# Altium footprint library Conn.Molex.PcbLib: 79 footprints (part 3 of 5)
Each footprint in its own frame and in the unit in brackets; x right, y up, seen from the top. Pads: shape width x height; smd on the part's side, far side on the other; paste and mask are expansions set on the pad; w line width, h text height; cw(c..) or ccw(c..) is an arc to the next point about the centre after c.
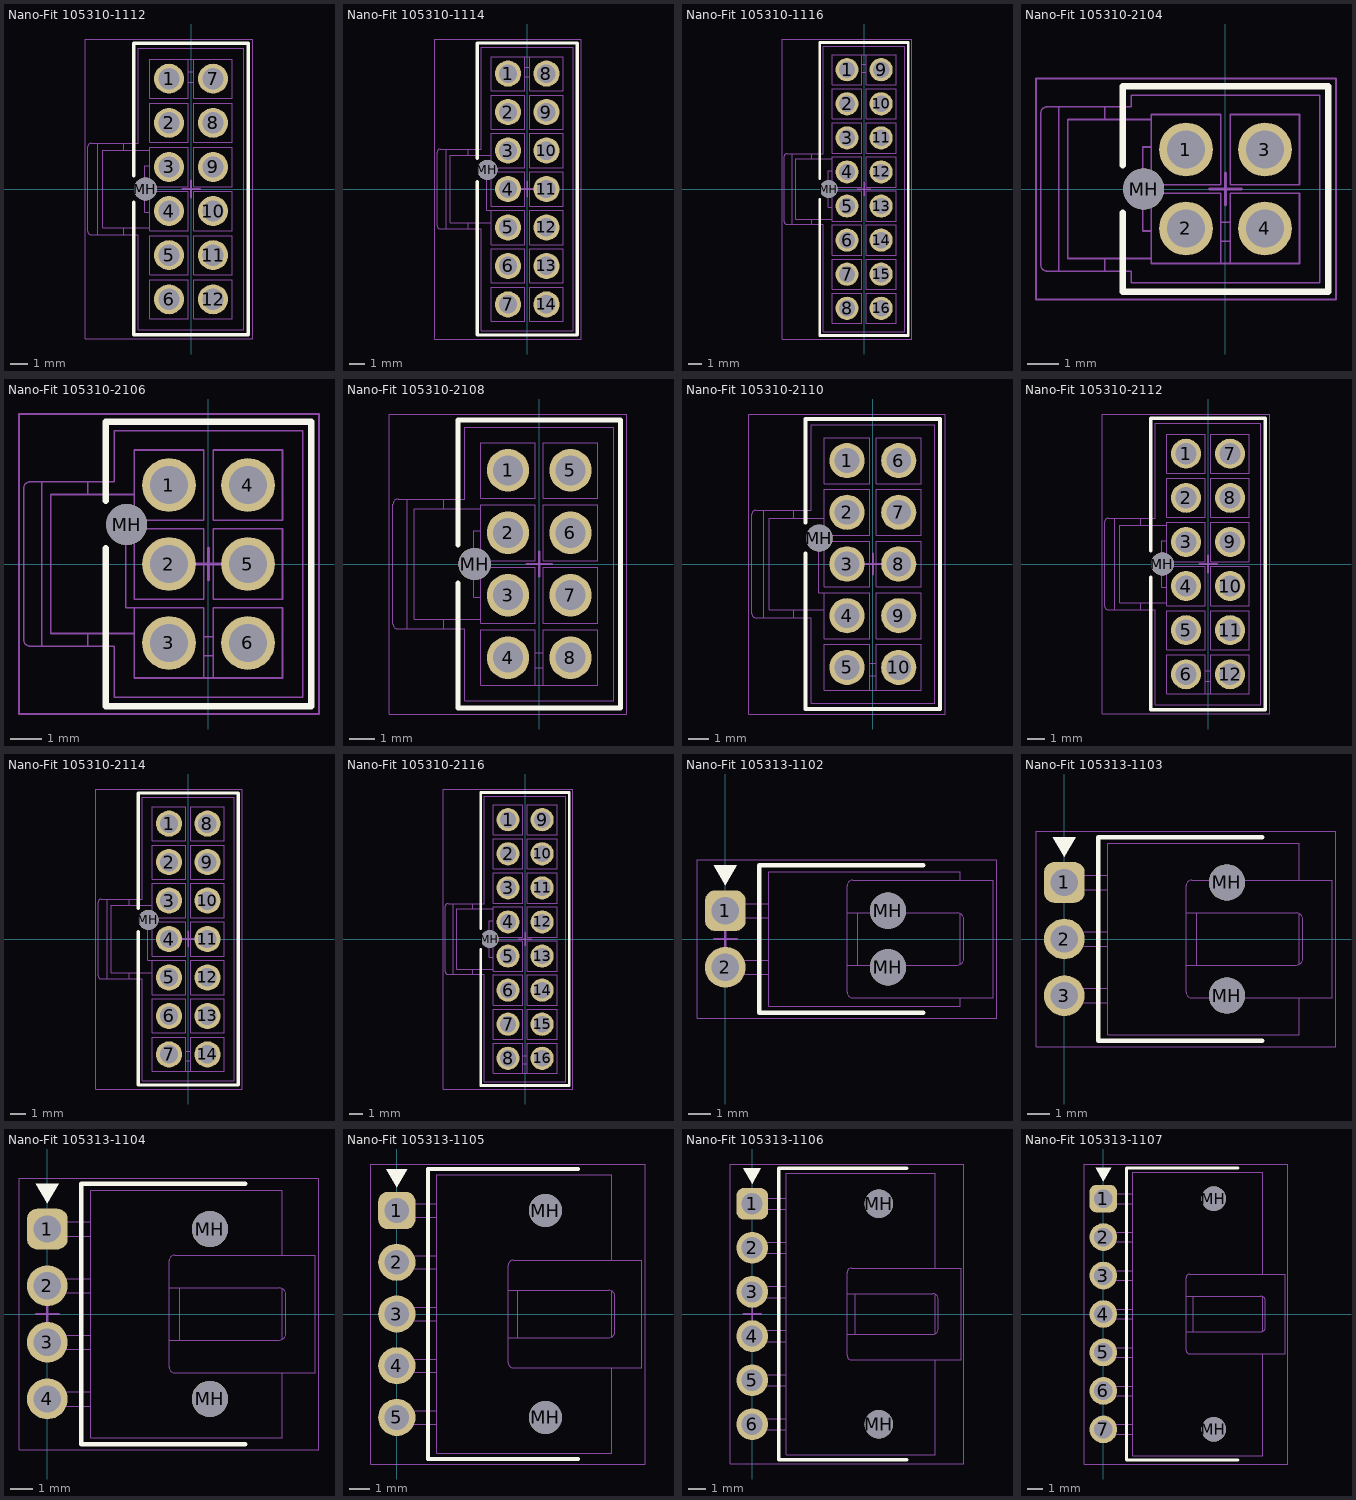
[diagram p2: the footprints below, top view; thin cyan lines are the x and y axes]

## Nano-Fit 105310-1112 [mm] "Molex Nano-Fit Header, 12-Pin, 2.5mm Pitch"
height 10.51
pads (13):
  round 1.7 hole 1.2: 1(-1.25,6.25) 2(-1.25,3.75) 3(-1.25,1.25) 4(-1.25,-1.25) 5(-1.25,-3.75) 6(-1.25,-6.25) 7(1.25,6.25) 8(1.25,3.75) 9(1.25,1.25) 10(1.25,-1.25) 11(1.25,-3.75) 12(1.25,-6.25)
  round 1.3 hole 1.3 unplated: MH(-2.59,0)
Top Overlay:
  lines w0.2: -3.25,-0.75 -3.25,-8.25 3.25,-8.25 3.25,8.25 -3.25,8.25 -3.25,0.75
Bottom Overlay:
  region: -1.25,7.384 -1.75,8.25 -0.75,8.25
Mechanical 1:
  drawing of 212 lines, arcs and shapes, not listed
Mechanical 15:
  lines w0.05: -6,-8.5 3.5,-8.5 3.5,8.5 -6,8.5 -6,-8.5
  lines w0.1: -0.5,0 0.5,0 ; 0,-0.5 0,0.5
3D body "Nano-Fit 105310-1112.stp": height 10.51, standoff -3.2, extent -5.85,-7.97 2.99,7.97

## Nano-Fit 105310-1114 [mm] "Molex Nano-Fit Header, 14-Pin, 2.5mm Pitch"
height 10.51
pads (15):
  round 1.7 hole 1.2: 1(-1.25,7.5) 2(-1.25,5) 3(-1.25,2.5) 4(-1.25,0) 5(-1.25,-2.5) 6(-1.25,-5) 7(-1.25,-7.5) 8(1.25,7.5) 9(1.25,5) 10(1.25,2.5) 11(1.25,0) 12(1.25,-2.5) 13(1.25,-5) 14(1.25,-7.5)
  round 1.3 hole 1.3 unplated: MH(-2.59,1.25)
Top Overlay:
  lines w0.2: -3.25,0.5 -3.25,-9.5 3.25,-9.5 3.25,9.5 -3.25,9.5 -3.25,2
Bottom Overlay:
  region: -1.25,8.634 -1.75,9.5 -0.75,9.5
Mechanical 1:
  drawing of 242 lines, arcs and shapes, not listed
Mechanical 15:
  lines w0.05: -6,-9.75 3.5,-9.75 3.5,9.75 -6,9.75 -6,-9.75
  lines w0.1: -0.5,0 0.5,0 ; 0,-0.5 0,0.5
3D body "Nano-Fit 105310-1114.stp": height 10.51, standoff -3.2, extent -5.85,-9.22 2.99,9.22

## Nano-Fit 105310-1116 [mm] "Molex Nano-Fit Header, 16-Pin, 2.5mm Pitch"
height 10.51
pads (17):
  round 1.7 hole 1.2: 1(-1.25,8.75) 2(-1.25,6.25) 3(-1.25,3.75) 4(-1.25,1.25) 5(-1.25,-1.25) 6(-1.25,-3.75) 7(-1.25,-6.25) 8(-1.25,-8.75) 9(1.25,8.75) 10(1.25,6.25) 11(1.25,3.75) 12(1.25,1.25) 13(1.25,-1.25) 14(1.25,-3.75) 15(1.25,-6.25) 16(1.25,-8.75)
  round 1.3 hole 1.3 unplated: MH(-2.59,0)
Top Overlay:
  lines w0.2: -3.25,-0.75 -3.25,-10.75 3.25,-10.75 3.25,10.75 -3.25,10.75 -3.25,0.75
Bottom Overlay:
  region: -1.25,9.884 -1.75,10.75 -0.75,10.75
Mechanical 1:
  drawing of 276 lines, arcs and shapes, not listed
Mechanical 15:
  lines w0.05: -6,-11 3.5,-11 3.5,11 -6,11 -6,-11
  lines w0.1: -0.5,0 0.5,0 ; 0,-0.5 0,0.5
3D body "Nano-Fit 105310-1116.stp": height 10.51, standoff -3.2, extent -5.85,-10.47 2.99,10.47

## Nano-Fit 105310-2104 [mm] "Molex Nano-Fit Header, 4-Pin, 2.5mm Pitch"
height 10.51
pads (5):
  round 1.7 hole 1.2: 1(-1.25,1.25) 2(-1.25,-1.25) 3(1.25,1.25) 4(1.25,-1.25)
  round 1.3 hole 1.3 unplated: MH(-2.59,0)
Top Overlay:
  lines w0.2: -3.25,-0.75 -3.25,-3.25 3.25,-3.25 3.25,3.25 -3.25,3.25 -3.25,0.75
Bottom Overlay:
  region: -1.25,2.384 -1.75,3.25 -0.75,3.25
Mechanical 1:
  lines w0.05: -5.28,-2.6 -5.28,2.6 ; -3.82,-2.6 -3.82,-2.2 ; -3.82,2.2 -3.82,2.6 ; -2.345,-2.2 -5,-2.2 -5,2.2 -2.345,2.2 ; -2.345,-1.33 -2.62,-1.33 -2.62,1.33 -2.345,1.33 ; -0.155,-2.36 -0.155,-0.14 -2.345,-0.14 -2.345,-2.36 2.345,-2.36 2.345,-0.14 0.155,-0.14 0.155,-2.36 ; -0.155,-1.65 0.155,-1.65 ; -0.155,-1.05 0.155,-1.05 ; -1.568,-1.568 -1.418,-1.418 ; -1.568,-1.568 -0.933,-1.568 ; -1.568,-1.568 -1.568,-0.933 ; -1.568,-0.933 -0.933,-0.933 ; -1.568,-0.933 -1.418,-1.082 ; -1.568,0.933 -1.418,1.082 ; -1.568,0.933 -0.933,0.933 ; -1.568,0.933 -1.568,1.568 ; -1.568,1.568 -0.933,1.568 ; -1.568,1.568 -1.418,1.418 ; -1.418,-1.418 -1.082,-1.418 ; -1.418,-1.418 -1.418,-1.082 ; -1.418,-1.082 -1.082,-1.082 ; -1.418,1.082 -1.082,1.082 ; -1.418,1.082 -1.418,1.418 ; -1.418,1.418 -1.082,1.418 ; -1.082,-1.418 -1.082,-1.082 ; -1.082,-1.418 -0.933,-1.568 ; -1.082,-1.082 -0.933,-0.933 ; -1.082,1.082 -0.933,0.933 ; -1.082,1.082 -1.082,1.418 ; -1.082,1.418 -0.933,1.568 ; -0.933,-1.568 -0.933,-0.933 ; -0.933,0.933 -0.933,1.568 ; 0.933,-1.568 0.933,-0.933 ; 0.933,-1.568 1.082,-1.418 ; 0.933,-1.568 1.568,-1.568 ; 0.933,-0.933 1.082,-1.082 ; 0.933,-0.933 1.568,-0.933 ; 0.933,0.933 1.082,1.082 ; 0.933,0.933 1.568,0.933 ; 0.933,0.933 0.933,1.568 ; 0.933,1.568 1.568,1.568 ; 0.933,1.568 1.082,1.418 ; 1.082,-1.418 1.082,-1.082 ; 1.082,-1.418 1.418,-1.418 ; 1.082,-1.082 1.418,-1.082 ; 1.082,1.082 1.082,1.418 ; 1.082,1.082 1.418,1.082 ; 1.082,1.418 1.418,1.418 ; 1.418,-1.418 1.418,-1.082 ; 1.418,-1.418 1.568,-1.568 ; 1.418,-1.082 1.568,-0.933 ; 1.418,1.082 1.418,1.418 ; 1.418,1.082 1.568,0.933 ; 1.418,1.418 1.568,1.568 ; 1.568,-1.568 1.568,-0.933 ; 1.568,0.933 1.568,1.568 ; -5.85,-2.4 ccw(c-5.65,-2.4) -5.65,-2.6 -2.99,-2.6 -2.99,-2.97 2.99,-2.97 2.99,2.97 -2.99,2.97 -2.99,2.6 -5.65,2.6 ccw(c-5.65,2.4) -5.85,2.4 -5.85,-2.4 ; -2.345,0.14 -2.345,2.36 -0.155,2.36 -0.155,0.14 -2.345,0.14 ; 0.155,0.14 0.155,2.36 2.345,2.36 2.345,0.14 0.155,0.14
Mechanical 15:
  lines w0.05: -6,-3.5 -6,3.5 3.5,3.5 3.5,-3.5 -6,-3.5
  lines w0.1: -0.5,0 0.5,0 ; 0,-0.5 0,0.5
3D body "Nano-Fit 105310-2104.stp": height 10.51, standoff -3.2, extent -5.85,-2.97 2.99,2.97

## Nano-Fit 105310-2106 [mm] "Molex Nano-Fit Header, 6-Pin, 2.5mm Pitch"
height 10.51
pads (7):
  round 1.7 hole 1.2: 1(-1.25,2.5) 2(-1.25,0) 3(-1.25,-2.5) 4(1.25,2.5) 5(1.25,0) 6(1.25,-2.5)
  round 1.3 hole 1.3 unplated: MH(-2.59,1.25)
Top Overlay:
  lines w0.2: -3.25,0.5 -3.25,-4.5 3.25,-4.5 3.25,4.5 -3.25,4.5 -3.25,2
Bottom Overlay:
  region: -1.25,3.634 -1.75,4.5 -0.75,4.5
Mechanical 1:
  lines w0.05: -5.28,-2.6 -5.28,2.6 ; -3.82,-2.6 -3.82,-2.2 ; -3.82,2.2 -3.82,2.6 ; -2.345,-2.2 -5,-2.2 -5,2.2 -2.345,2.2 ; -2.345,-1.39 -2.345,-3.61 2.345,-3.61 2.345,-1.39 0.155,-1.39 0.155,-3.61 ; -2.345,1.39 -2.345,3.61 -0.155,3.61 -0.155,1.39 -2.62,1.39 -2.62,-1.39 -0.155,-1.39 -0.155,-3.61 ; -0.155,-2.9 0.155,-2.9 ; -0.155,-2.3 0.155,-2.3 ; -1.568,-2.818 -1.568,-2.183 ; -1.568,-2.818 -1.418,-2.668 ; -1.568,-2.818 -0.933,-2.818 ; -1.568,-2.183 -1.418,-2.332 ; -1.568,-2.183 -0.933,-2.183 ; -1.568,-0.318 -1.418,-0.168 ; -1.568,-0.318 -0.933,-0.318 ; -1.568,-0.318 -1.568,0.318 ; -1.568,0.318 -0.933,0.318 ; -1.568,0.318 -1.418,0.168 ; -1.568,2.183 -1.568,2.818 ; -1.568,2.183 -1.418,2.332 ; -1.568,2.183 -0.933,2.183 ; -1.568,2.818 -1.418,2.668 ; -1.568,2.818 -0.933,2.818 ; -1.418,-2.668 -1.418,-2.332 ; -1.418,-2.668 -1.082,-2.668 ; -1.418,-2.332 -1.082,-2.332 ; -1.418,-0.168 -1.418,0.168 ; -1.418,-0.168 -1.082,-0.168 ; -1.418,0.168 -1.082,0.168 ; -1.418,2.332 -1.418,2.668 ; -1.418,2.332 -1.082,2.332 ; -1.418,2.668 -1.082,2.668 ; -1.082,-2.668 -1.082,-2.332 ; -1.082,-2.668 -0.933,-2.818 ; -1.082,-2.332 -0.933,-2.183 ; -1.082,-0.168 -1.082,0.168 ; -1.082,-0.168 -0.933,-0.318 ; -1.082,0.168 -0.933,0.318 ; -1.082,2.332 -1.082,2.668 ; -1.082,2.332 -0.933,2.183 ; -1.082,2.668 -0.933,2.818 ; -0.933,-2.818 -0.933,-2.183 ; -0.933,-0.318 -0.933,0.318 ; -0.933,2.183 -0.933,2.818 ; 0.933,-2.818 1.082,-2.668 ; 0.933,-2.818 1.568,-2.818 ; 0.933,-2.818 0.933,-2.183 ; 0.933,-2.183 1.568,-2.183 ; 0.933,-2.183 1.082,-2.332 ; 0.933,-0.318 1.082,-0.168 ; 0.933,-0.318 1.568,-0.318 ; 0.933,-0.318 0.933,0.318 ; 0.933,0.318 1.082,0.168 ; 0.933,0.318 1.568,0.318 ; 0.933,2.183 0.933,2.818 ; 0.933,2.183 1.082,2.332 ; 0.933,2.183 1.568,2.183 ; 0.933,2.818 1.568,2.818 ; 0.933,2.818 1.082,2.668 ; 1.082,-2.668 1.082,-2.332 ; 1.082,-2.668 1.418,-2.668 ; 1.082,-2.332 1.418,-2.332 ; 1.082,-0.168 1.418,-0.168 ; 1.082,-0.168 1.082,0.168 ; 1.082,0.168 1.418,0.168 ; 1.082,2.332 1.082,2.668 ; 1.082,2.332 1.418,2.332 ; 1.082,2.668 1.418,2.668 ; 1.418,-2.668 1.418,-2.332 ; 1.418,-2.668 1.568,-2.818 ; 1.418,-2.332 1.568,-2.183 ; 1.418,-0.168 1.418,0.168 ; 1.418,-0.168 1.568,-0.318 ; 1.418,0.168 1.568,0.318 ; 1.418,2.332 1.418,2.668 ; 1.418,2.332 1.568,2.183 ; 1.418,2.668 1.568,2.818 ; 1.568,-2.818 1.568,-2.183 ; 1.568,-0.318 1.568,0.318 ; 1.568,2.183 1.568,2.818 ; -5.85,-2.4 ccw(c-5.65,-2.4) -5.65,-2.6 -2.99,-2.6 -2.99,-4.22 2.99,-4.22 2.99,4.22 -2.99,4.22 -2.99,2.6 -5.65,2.6 ccw(c-5.65,2.4) -5.85,2.4 -5.85,-2.4 ; -2.345,-1.11 -2.345,1.11 -0.155,1.11 -0.155,-1.11 -2.345,-1.11 ; 0.155,-1.11 0.155,1.11 2.345,1.11 2.345,-1.11 0.155,-1.11 ; 0.155,1.39 0.155,3.61 2.345,3.61 2.345,1.39 0.155,1.39
Mechanical 15:
  lines w0.05: -6,-4.75 3.5,-4.75 3.5,4.75 -6,4.75 -6,-4.75
  lines w0.1: -0.5,0 0.5,0 ; 0,-0.5 0,0.5
3D body "Nano-Fit 105310-2106.stp": height 10.51, standoff -3.2, extent -5.85,-4.22 2.99,4.22

## Nano-Fit 105310-2108 [mm] "Molex Nano-Fit Header, 8-Pin, 2.5mm Pitch"
height 10.51
pads (9):
  round 1.7 hole 1.2: 1(-1.25,3.75) 2(-1.25,1.25) 3(-1.25,-1.25) 4(-1.25,-3.75) 5(1.25,3.75) 6(1.25,1.25) 7(1.25,-1.25) 8(1.25,-3.75)
  round 1.3 hole 1.3 unplated: MH(-2.59,0)
Top Overlay:
  lines w0.2: -3.25,-0.75 -3.25,-5.75 3.25,-5.75 3.25,5.75 -3.25,5.75 -3.25,0.75
Bottom Overlay:
  region: -1.25,4.884 -1.75,5.75 -0.75,5.75
Mechanical 1:
  lines w0.05: -5.28,-2.6 -5.28,2.6 ; -3.82,-2.6 -3.82,-2.2 ; -3.82,2.2 -3.82,2.6 ; -2.345,-2.2 -5,-2.2 -5,2.2 -2.345,2.2 ; -2.345,-1.33 -2.62,-1.33 -2.62,1.33 -2.345,1.33 ; -0.155,-4.86 -0.155,-2.64 -2.345,-2.64 -2.345,-4.86 2.345,-4.86 2.345,-2.64 0.155,-2.64 0.155,-4.86 ; -0.155,-4.15 0.155,-4.15 ; -0.155,-3.55 0.155,-3.55 ; -1.568,-4.068 -1.418,-3.918 ; -1.568,-4.068 -0.933,-4.068 ; -1.568,-4.068 -1.568,-3.433 ; -1.568,-3.433 -0.933,-3.433 ; -1.568,-3.433 -1.418,-3.582 ; -1.568,-1.568 -1.568,-0.933 ; -1.568,-1.568 -1.418,-1.418 ; -1.568,-1.568 -0.933,-1.568 ; -1.568,-0.933 -1.418,-1.082 ; -1.568,-0.933 -0.933,-0.933 ; -1.568,0.933 -1.418,1.082 ; -1.568,0.933 -0.933,0.933 ; -1.568,0.933 -1.568,1.568 ; -1.568,1.568 -1.418,1.418 ; -1.568,1.568 -0.933,1.568 ; -1.568,3.433 -1.418,3.582 ; -1.568,3.433 -0.933,3.433 ; -1.568,3.433 -1.568,4.068 ; -1.568,4.068 -0.933,4.068 ; -1.568,4.068 -1.418,3.918 ; -1.418,-3.918 -1.082,-3.918 ; -1.418,-3.918 -1.418,-3.582 ; -1.418,-3.582 -1.082,-3.582 ; -1.418,-1.418 -1.418,-1.082 ; -1.418,-1.418 -1.082,-1.418 ; -1.418,-1.082 -1.082,-1.082 ; -1.418,1.082 -1.082,1.082 ; -1.418,1.082 -1.418,1.418 ; -1.418,1.418 -1.082,1.418 ; -1.418,3.582 -1.082,3.582 ; -1.418,3.582 -1.418,3.918 ; -1.418,3.918 -1.082,3.918 ; -1.082,-3.918 -1.082,-3.582 ; -1.082,-3.918 -0.933,-4.068 ; -1.082,-3.582 -0.933,-3.433 ; -1.082,-1.418 -1.082,-1.082 ; -1.082,-1.418 -0.933,-1.568 ; -1.082,-1.082 -0.933,-0.933 ; -1.082,1.082 -0.933,0.933 ; -1.082,1.082 -1.082,1.418 ; -1.082,1.418 -0.933,1.568 ; -1.082,3.582 -0.933,3.433 ; -1.082,3.582 -1.082,3.918 ; -1.082,3.918 -0.933,4.068 ; -0.933,-4.068 -0.933,-3.433 ; -0.933,-1.568 -0.933,-0.933 ; -0.933,0.933 -0.933,1.568 ; -0.933,3.433 -0.933,4.068 ; 0.933,-4.068 0.933,-3.433 ; 0.933,-4.068 1.082,-3.918 ; 0.933,-4.068 1.568,-4.068 ; 0.933,-3.433 1.082,-3.582 ; 0.933,-3.433 1.568,-3.433 ; 0.933,-1.568 0.933,-0.933 ; 0.933,-1.568 1.082,-1.418 ; 0.933,-1.568 1.568,-1.568 ; 0.933,-0.933 1.568,-0.933 ; 0.933,-0.933 1.082,-1.082 ; 0.933,0.933 0.933,1.568 ; 0.933,0.933 1.082,1.082 ; 0.933,0.933 1.568,0.933 ; 0.933,1.568 1.082,1.418 ; 0.933,1.568 1.568,1.568 ; 0.933,3.433 1.082,3.582 ; 0.933,3.433 1.568,3.433 ; 0.933,3.433 0.933,4.068 ; 0.933,4.068 1.568,4.068 ; 0.933,4.068 1.082,3.918 ; 1.082,-3.918 1.082,-3.582 ; 1.082,-3.918 1.418,-3.918 ; 1.082,-3.582 1.418,-3.582 ; 1.082,-1.418 1.082,-1.082 ; 1.082,-1.418 1.418,-1.418 ; 1.082,-1.082 1.418,-1.082 ; 1.082,1.082 1.082,1.418 ; 1.082,1.082 1.418,1.082 ; 1.082,1.418 1.418,1.418 ; 1.082,3.582 1.082,3.918 ; 1.082,3.582 1.418,3.582 ; 1.082,3.918 1.418,3.918 ; 1.418,-3.918 1.418,-3.582 ; 1.418,-3.918 1.568,-4.068 ; 1.418,-3.582 1.568,-3.433 ; 1.418,-1.418 1.418,-1.082 ; 1.418,-1.418 1.568,-1.568 ; 1.418,-1.082 1.568,-0.933 ; 1.418,1.082 1.418,1.418 ; 1.418,1.082 1.568,0.933 ; 1.418,1.418 1.568,1.568 ; 1.418,3.582 1.418,3.918 ; 1.418,3.582 1.568,3.433 ; 1.418,3.918 1.568,4.068 ; 1.568,-4.068 1.568,-3.433 ; 1.568,-1.568 1.568,-0.933 ; 1.568,0.933 1.568,1.568 ; 1.568,3.433 1.568,4.068 ; -5.85,-2.4 ccw(c-5.65,-2.4) -5.65,-2.6 -2.99,-2.6 -2.99,-5.47 2.99,-5.47 2.99,5.47 -2.99,5.47 -2.99,2.6 -5.65,2.6 ccw(c-5.65,2.4) -5.85,2.4 -5.85,-2.4 ; -2.345,-2.36 -2.345,-0.14 -0.155,-0.14 -0.155,-2.36 -2.345,-2.36 ; -2.345,0.14 -0.155,0.14 -0.155,2.36 -2.345,2.36 -2.345,0.14 ; -2.345,2.64 -2.345,4.86 -0.155,4.86 -0.155,2.64 -2.345,2.64 ; 0.155,-2.36 0.155,-0.14 2.345,-0.14 2.345,-2.36 0.155,-2.36 ; 0.155,0.14 0.155,2.36 2.345,2.36 2.345,0.14 0.155,0.14 ; 0.155,2.64 0.155,4.86 2.345,4.86 2.345,2.64 0.155,2.64
Mechanical 15:
  lines w0.05: -6,-6 3.5,-6 3.5,6 -6,6 -6,-6
  lines w0.1: -0.5,0 0.5,0 ; 0,-0.5 0,0.5
3D body "Nano-Fit 105310-2108.stp": height 10.51, standoff -3.2, extent -5.85,-5.47 2.99,5.47

## Nano-Fit 105310-2110 [mm] "Molex Nano-Fit Header, 10-Pin, 2.5mm Pitch"
height 10.51
pads (11):
  round 1.7 hole 1.2: 1(-1.25,5) 2(-1.25,2.5) 3(-1.25,0) 4(-1.25,-2.5) 5(-1.25,-5) 6(1.25,5) 7(1.25,2.5) 8(1.25,0) 9(1.25,-2.5) 10(1.25,-5)
  round 1.3 hole 1.3 unplated: MH(-2.59,1.25)
Top Overlay:
  lines w0.2: -3.25,0.5 -3.25,-7 3.25,-7 3.25,7 -3.25,7 -3.25,2
Bottom Overlay:
  region: -1.25,6.134 -1.75,7 -0.75,7
Mechanical 1:
  drawing of 178 lines, arcs and shapes, not listed
Mechanical 15:
  lines w0.05: -6,-7.25 -6,7.25 3.5,7.25 3.5,-7.25 -6,-7.25
  lines w0.1: -0.5,0 0.5,0 ; 0,-0.5 0,0.5
3D body "Nano-Fit 105310-2110.stp": height 10.51, standoff -3.2, extent -5.85,-6.72 2.99,6.72

## Nano-Fit 105310-2112 [mm] "Molex Nano-Fit Header, 12-Pin, 2.5mm Pitch"
height 10.51
pads (13):
  round 1.7 hole 1.2: 1(-1.25,6.25) 2(-1.25,3.75) 3(-1.25,1.25) 4(-1.25,-1.25) 5(-1.25,-3.75) 6(-1.25,-6.25) 7(1.25,6.25) 8(1.25,3.75) 9(1.25,1.25) 10(1.25,-1.25) 11(1.25,-3.75) 12(1.25,-6.25)
  round 1.3 hole 1.3 unplated: MH(-2.59,0)
Top Overlay:
  lines w0.2: -3.25,-0.75 -3.25,-8.25 3.25,-8.25 3.25,8.25 -3.25,8.25 -3.25,0.75
Bottom Overlay:
  region: -1.25,7.384 -1.75,8.25 -0.75,8.25
Mechanical 1:
  drawing of 212 lines, arcs and shapes, not listed
Mechanical 15:
  lines w0.05: -6,-8.5 -6,8.5 3.5,8.5 3.5,-8.5 -6,-8.5
  lines w0.1: -0.5,0 0.5,0 ; 0,-0.5 0,0.5
3D body "Nano-Fit 105310-2112.stp": height 10.51, standoff -3.2, extent -5.85,-7.97 2.99,7.97

## Nano-Fit 105310-2114 [mm] "Molex Nano-Fit Header, 14-Pin, 2.5mm Pitch"
height 10.51
pads (15):
  round 1.7 hole 1.2: 1(-1.25,7.5) 2(-1.25,5) 3(-1.25,2.5) 4(-1.25,0) 5(-1.25,-2.5) 6(-1.25,-5) 7(-1.25,-7.5) 8(1.25,7.5) 9(1.25,5) 10(1.25,2.5) 11(1.25,0) 12(1.25,-2.5) 13(1.25,-5) 14(1.25,-7.5)
  round 1.3 hole 1.3 unplated: MH(-2.59,1.25)
Top Overlay:
  lines w0.2: -3.25,0.5 -3.25,-9.5 3.25,-9.5 3.25,9.5 -3.25,9.5 -3.25,2
Bottom Overlay:
  region: -1.25,8.634 -1.75,9.5 -0.75,9.5
Mechanical 1:
  drawing of 242 lines, arcs and shapes, not listed
Mechanical 15:
  lines w0.05: -6,-9.75 -6,9.75 3.5,9.75 3.5,-9.75 -6,-9.75
  lines w0.1: -0.5,0 0.5,0 ; 0,-0.5 0,0.5
3D body "Nano-Fit 105310-2114.stp": height 10.51, standoff -3.2, extent -5.85,-9.22 2.99,9.22

## Nano-Fit 105310-2116 [mm] "Molex Nano-Fit Header, 16-Pin, 2.5mm Pitch"
height 10.51
pads (17):
  round 1.7 hole 1.2: 1(-1.25,8.75) 2(-1.25,6.25) 3(-1.25,3.75) 4(-1.25,1.25) 5(-1.25,-1.25) 6(-1.25,-3.75) 7(-1.25,-6.25) 8(-1.25,-8.75) 9(1.25,8.75) 10(1.25,6.25) 11(1.25,3.75) 12(1.25,1.25) 13(1.25,-1.25) 14(1.25,-3.75) 15(1.25,-6.25) 16(1.25,-8.75)
  round 1.3 hole 1.3 unplated: MH(-2.59,0)
Top Overlay:
  lines w0.2: -3.25,-0.75 -3.25,-10.75 3.25,-10.75 3.25,10.75 -3.25,10.75 -3.25,0.75
Bottom Overlay:
  region: -1.25,9.884 -1.75,10.75 -0.75,10.75
Mechanical 1:
  drawing of 276 lines, arcs and shapes, not listed
Mechanical 15:
  lines w0.05: -6,-11 -6,11 3.5,11 3.5,-11 -6,-11
  lines w0.1: -0.5,0 0.5,0 ; 0,-0.5 0,0.5
3D body "Nano-Fit 105310-2116.stp": height 10.51, standoff -3.2, extent -5.85,-10.47 2.99,10.47

## Nano-Fit 105313-1102 [mm] "Molex Nano-Fit Header, 2-Pin, 2.5mm Pitch"
height 6.64
pads (4):
  rrect50% 1.8x1.8 hole 1.2: 1(0,1.25)
  round 1.8 hole 1.2: 2(0,-1.25)
  round 1.6 hole 1.6 unplated: MH(7.18,-1.25) MH(7.18,1.25)
Top Overlay:
  region: 0,2.384 0.5,3.25 -0.5,3.25
  lines w0.2: 8.75,-3.25 1.5,-3.25 1.5,3.25 8.75,3.25
Mechanical 1:
  lines w0.05: 0.617,-1.568 0.617,-0.933 ; 0.617,0.933 0.617,1.568 ; 1.92,-1.568 -0.318,-1.568 -0.318,-0.933 1.92,-0.933 ; 1.92,0.933 -0.318,0.933 -0.318,1.568 1.92,1.568 ; 5.38,-1.15 10.24,-1.15 ccw(c10.24,-0.85) 10.54,-0.85 10.54,0.85 ccw(c10.24,0.85) 10.24,1.15 5.38,1.15 ; 5.84,-1.15 5.84,1.15 ; 10.38,-2.6 10.38,-2.97 1.92,-2.97 1.92,2.97 10.38,2.97 10.38,2.6 ; 10.38,-1.115 10.38,1.115 ; 5.38,-2.35 ccw(c5.63,-2.35) 5.63,-2.6 11.84,-2.6 11.84,2.6 5.63,2.6 ccw(c5.63,2.35) 5.38,2.35 5.38,-2.35
Mechanical 15:
  lines w0.05: -1.25,-3.5 -1.25,3.5 12,3.5 12,-3.5 -1.25,-3.5
  lines w0.1: -0.5,0 0.5,0 ; 0,-0.5 0,0.5
3D body "Nano-Fit 105313-1102.stp": height 6.64, standoff -3.2, extent -0.318,-2.97 11.84,2.97

## Nano-Fit 105313-1103 [mm] "Molex Nano-Fit Header, 2-Pin, 2.5mm Pitch"
height 6.64
pads (5):
  rrect50% 1.8x1.8 hole 1.2: 1(0,2.5)
  round 1.8 hole 1.2: 2(0,0) 3(0,-2.5)
  round 1.6 hole 1.6 unplated: MH(7.18,-2.5) MH(7.18,2.5)
Top Overlay:
  region: 0,3.634 0.5,4.5 -0.5,4.5
  lines w0.2: 8.75,-4.5 1.5,-4.5 1.5,4.5 8.75,4.5
Mechanical 1:
  lines w0.05: 0.617,-2.818 0.617,-2.183 ; 0.617,-0.318 0.617,0.318 ; 0.617,2.183 0.617,2.818 ; 1.92,-2.818 -0.318,-2.818 -0.318,-2.183 1.92,-2.183 ; 1.92,-0.318 -0.318,-0.318 -0.318,0.318 1.92,0.318 ; 1.92,2.183 -0.318,2.183 -0.318,2.818 1.92,2.818 ; 5.38,-1.15 10.24,-1.15 ccw(c10.24,-0.85) 10.54,-0.85 10.54,0.85 ccw(c10.24,0.85) 10.24,1.15 5.38,1.15 ; 5.84,-1.15 5.84,1.15 ; 10.38,-2.6 10.38,-4.22 1.92,-4.22 1.92,4.22 10.38,4.22 10.38,2.6 ; 10.38,-1.115 10.38,1.115 ; 5.38,-2.35 ccw(c5.63,-2.35) 5.63,-2.6 11.84,-2.6 11.84,2.6 5.63,2.6 ccw(c5.63,2.35) 5.38,2.35 5.38,-2.35
Mechanical 15:
  lines w0.05: -1.25,-4.75 12,-4.75 12,4.75 -1.25,4.75 -1.25,-4.75
  lines w0.1: -0.5,0 0.5,0 ; 0,-0.5 0,0.5
3D body "Nano-Fit 105313-1103.STEP": height 6.64, standoff -3.2, extent -0.318,-4.22 11.84,4.22

## Nano-Fit 105313-1104 [mm] "Molex Nano-Fit Header, 4-Pin, 2.5mm Pitch"
height 6.64
pads (6):
  rrect50% 1.8x1.8 hole 1.2: 1(0,3.75)
  round 1.8 hole 1.2: 2(0,1.25) 3(0,-1.25) 4(0,-3.75)
  round 1.6 hole 1.6 unplated: MH(7.18,-3.75) MH(7.18,3.75)
Top Overlay:
  region: 0,4.884 0.5,5.75 -0.5,5.75
  lines w0.2: 8.75,-5.75 1.5,-5.75 1.5,5.75 8.75,5.75
Mechanical 1:
  lines w0.05: 0.617,-4.068 0.617,-3.433 ; 0.617,-1.568 0.617,-0.933 ; 0.617,0.933 0.617,1.568 ; 0.617,3.433 0.617,4.068 ; 1.92,-4.068 -0.318,-4.068 -0.318,-3.433 1.92,-3.433 ; 1.92,-1.568 -0.318,-1.568 -0.318,-0.933 1.92,-0.933 ; 1.92,0.933 -0.318,0.933 -0.318,1.568 1.92,1.568 ; 1.92,3.433 -0.318,3.433 -0.318,4.068 1.92,4.068 ; 5.38,-1.15 10.24,-1.15 ccw(c10.24,-0.85) 10.54,-0.85 10.54,0.85 ccw(c10.24,0.85) 10.24,1.15 5.38,1.15 ; 5.84,-1.15 5.84,1.15 ; 10.38,-2.6 10.38,-5.47 1.92,-5.47 1.92,5.47 10.38,5.47 10.38,2.6 ; 10.38,-1.115 10.38,1.115 ; 5.38,-2.35 ccw(c5.63,-2.35) 5.63,-2.6 11.84,-2.6 11.84,2.6 5.63,2.6 ccw(c5.63,2.35) 5.38,2.35 5.38,-2.35
Mechanical 15:
  lines w0.05: -1.25,-6 -1.25,6 12,6 12,-6 -1.25,-6
  lines w0.1: -0.5,0 0.5,0 ; 0,-0.5 0,0.5
3D body "Nano-Fit 105313-1104.STEP": height 6.64, standoff -3.2, extent -0.317,-5.47 11.84,5.47

## Nano-Fit 105313-1105 [mm] "Molex Nano-Fit Header, 5-Pin, 2.5mm Pitch"
height 6.64
pads (7):
  rrect50% 1.8x1.8 hole 1.2: 1(0,5)
  round 1.8 hole 1.2: 2(0,2.5) 3(0,0) 4(0,-2.5) 5(0,-5)
  round 1.6 hole 1.6 unplated: MH(7.18,-5) MH(7.18,5)
Top Overlay:
  region: 0,6.134 0.5,7 -0.5,7
  lines w0.2: 8.75,-7 1.5,-7 1.5,7 8.75,7
Mechanical 1:
  lines w0.05: 0.617,-5.318 0.617,-4.683 ; 0.617,-2.818 0.617,-2.183 ; 0.617,-0.318 0.617,0.318 ; 0.617,2.183 0.617,2.818 ; 0.617,4.683 0.617,5.318 ; 1.92,-5.318 -0.318,-5.318 -0.318,-4.683 1.92,-4.683 ; 1.92,-2.818 -0.318,-2.818 -0.318,-2.183 1.92,-2.183 ; 1.92,-0.318 -0.318,-0.318 -0.318,0.318 1.92,0.318 ; 1.92,2.183 -0.318,2.183 -0.318,2.818 1.92,2.818 ; 1.92,4.683 -0.318,4.683 -0.318,5.318 1.92,5.318 ; 5.38,-1.15 10.24,-1.15 ccw(c10.24,-0.85) 10.54,-0.85 10.54,0.85 ccw(c10.24,0.85) 10.24,1.15 5.38,1.15 ; 5.84,-1.15 5.84,1.15 ; 10.38,-2.6 10.38,-6.72 1.92,-6.72 1.92,6.72 10.38,6.72 10.38,2.6 ; 10.38,-1.115 10.38,1.115 ; 5.38,-2.35 ccw(c5.63,-2.35) 5.63,-2.6 11.84,-2.6 11.84,2.6 5.63,2.6 ccw(c5.63,2.35) 5.38,2.35 5.38,-2.35
Mechanical 15:
  lines w0.05: -1.25,-7.25 -1.25,7.25 12,7.25 12,-7.25 -1.25,-7.25
  lines w0.1: -0.5,0 0.5,0 ; 0,-0.5 0,0.5
3D body "Nano-Fit 105313-1105.stp": height 6.64, standoff -3.2, extent -0.317,-6.72 11.84,6.72

## Nano-Fit 105313-1106 [mm] "Molex Nano-Fit Header, 6-Pin, 2.5mm Pitch"
height 6.64
pads (8):
  rrect50% 1.8x1.8 hole 1.2: 1(0,6.25)
  round 1.8 hole 1.2: 2(0,3.75) 3(0,1.25) 4(0,-1.25) 5(0,-3.75) 6(0,-6.25)
  round 1.6 hole 1.6 unplated: MH(7.18,-6.25) MH(7.18,6.25)
Top Overlay:
  region: 0,7.384 0.5,8.25 -0.5,8.25
  lines w0.2: 8.75,-8.25 1.5,-8.25 1.5,8.25 8.75,8.25
Mechanical 1:
  lines w0.05: 0.617,-6.568 0.617,-5.933 ; 0.617,-4.068 0.617,-3.433 ; 0.617,-1.568 0.617,-0.933 ; 0.617,0.933 0.617,1.568 ; 0.617,3.433 0.617,4.068 ; 0.617,5.933 0.617,6.568 ; 1.92,-6.568 -0.318,-6.568 -0.318,-5.933 1.92,-5.933 ; 1.92,-4.068 -0.318,-4.068 -0.318,-3.433 1.92,-3.433 ; 1.92,-1.568 -0.318,-1.568 -0.318,-0.933 1.92,-0.933 ; 1.92,0.933 -0.318,0.933 -0.318,1.568 1.92,1.568 ; 1.92,3.433 -0.318,3.433 -0.318,4.068 1.92,4.068 ; 1.92,5.933 -0.318,5.933 -0.318,6.568 1.92,6.568 ; 5.38,-1.15 10.24,-1.15 ccw(c10.24,-0.85) 10.54,-0.85 10.54,0.85 ccw(c10.24,0.85) 10.24,1.15 5.38,1.15 ; 5.84,-1.15 5.84,1.15 ; 10.38,-2.6 10.38,-7.97 1.92,-7.97 1.92,7.97 10.38,7.97 10.38,2.6 ; 10.38,-1.115 10.38,1.115 ; 5.38,-2.35 ccw(c5.63,-2.35) 5.63,-2.6 11.84,-2.6 11.84,2.6 5.63,2.6 ccw(c5.63,2.35) 5.38,2.35 5.38,-2.35
Mechanical 15:
  lines w0.05: -1.25,-8.5 -1.25,8.5 12,8.5 12,-8.5 -1.25,-8.5
  lines w0.1: -0.5,0 0.5,0 ; 0,-0.5 0,0.5
3D body "Nano-Fit 105313-1106.stp": height 6.64, standoff -3.2, extent -0.317,-7.97 11.84,7.97

## Nano-Fit 105313-1107 [mm] "Molex Nano-Fit Header, 7-Pin, 2.5mm Pitch"
height 6.64
pads (9):
  rrect50% 1.8x1.8 hole 1.2: 1(0,7.5)
  round 1.8 hole 1.2: 2(0,5) 3(0,2.5) 4(0,0) 5(0,-2.5) 6(0,-5) 7(0,-7.5)
  round 1.6 hole 1.6 unplated: MH(7.18,-7.5) MH(7.18,7.5)
Top Overlay:
  region: 0,8.634 0.5,9.5 -0.5,9.5
  lines w0.2: 8.75,-9.5 1.5,-9.5 1.5,9.5 8.75,9.5
Mechanical 1:
  lines w0.05: 0.617,-7.818 0.617,-7.183 ; 0.617,-5.318 0.617,-4.683 ; 0.617,-2.818 0.617,-2.183 ; 0.617,-0.318 0.617,0.318 ; 0.617,2.183 0.617,2.818 ; 0.617,4.683 0.617,5.318 ; 0.617,7.183 0.617,7.818 ; 1.92,-7.818 -0.318,-7.818 -0.318,-7.183 1.92,-7.183 ; 1.92,-5.318 -0.318,-5.318 -0.318,-4.683 1.92,-4.683 ; 1.92,-2.818 -0.318,-2.818 -0.318,-2.183 1.92,-2.183 ; 1.92,-0.318 -0.318,-0.318 -0.318,0.318 1.92,0.318 ; 1.92,2.183 -0.318,2.183 -0.318,2.818 1.92,2.818 ; 1.92,4.683 -0.318,4.683 -0.318,5.318 1.92,5.318 ; 1.92,7.183 -0.318,7.183 -0.318,7.818 1.92,7.818 ; 5.38,-1.15 10.24,-1.15 ccw(c10.24,-0.85) 10.54,-0.85 10.54,0.85 ccw(c10.24,0.85) 10.24,1.15 5.38,1.15 ; 5.84,-1.15 5.84,1.15 ; 10.38,-2.6 10.38,-9.22 1.92,-9.22 1.92,9.22 10.38,9.22 10.38,2.6 ; 10.38,-1.115 10.38,1.115 ; 5.38,-2.35 ccw(c5.63,-2.35) 5.63,-2.6 11.84,-2.6 11.84,2.6 5.63,2.6 ccw(c5.63,2.35) 5.38,2.35 5.38,-2.35
Mechanical 15:
  lines w0.05: -1.25,-9.75 -1.25,9.75 12,9.75 12,-9.75 -1.25,-9.75
  lines w0.1: -0.5,0 0.5,0 ; 0,-0.5 0,0.5
3D body "Nano-Fit 105313-1107.stp": height 6.64, standoff -3.2, extent -0.317,-9.22 11.84,9.22